# Altium footprint library Eval.Boards.PcbLib: 1 footprints
Each footprint in its own frame and in the unit in brackets; x right, y up, seen from the top. Pads: shape width x height; smd on the part's side, far side on the other; paste and mask are expansions set on the pad; w line width, h text height; cw(c..) or ccw(c..) is an arc to the next point about the centre after c.
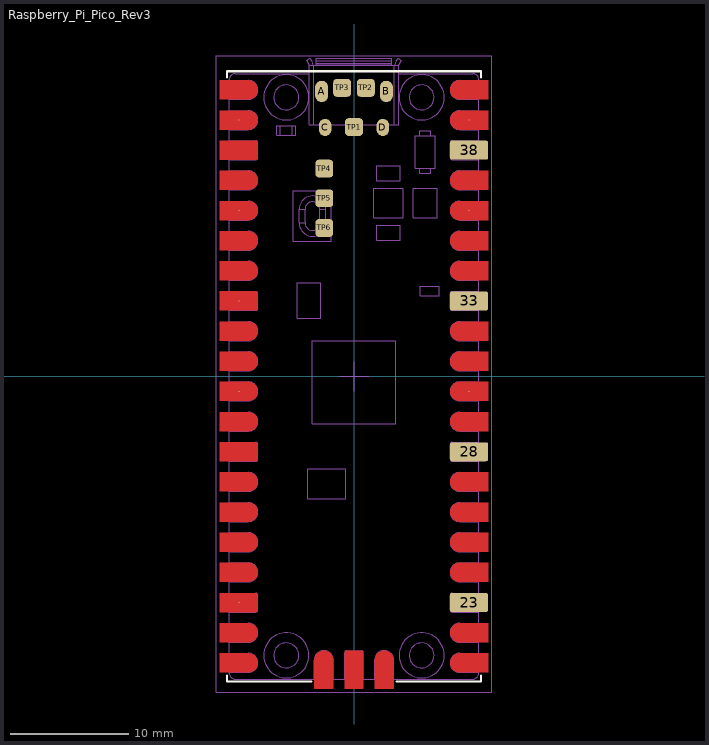
[diagram p0: the footprint, top view; thin cyan lines are the x and y axes]

## Raspberry_Pi_Pico_Rev3 [mm] "SMD Footprint for Raspberry Pi Pico Module"
pads (54):
  round 0.025 smd: 1(-9.69,24.13) 1(-9.69,24.13) 2(-9.69,21.59) 3(-9.69,19.05) 4(-9.69,16.51) 5(-9.69,13.97) 6(-9.69,11.43) 7(-9.69,8.89) 8(-9.69,6.35) 9(-9.69,3.81) 10(-9.69,1.27) 11(-9.69,-1.27) 12(-9.69,-3.81) 13(-9.69,-6.35) 14(-9.69,-8.89) 15(-9.69,-11.43) 16(-9.69,-13.97) 17(-9.69,-16.51) 18(-9.69,-19.05) 19(-9.69,-21.59) 20(-9.69,-24.13) 21(9.69,-24.13) 22(9.69,-21.59) 24(9.69,-16.51) 25(9.69,-13.97) 26(9.69,-11.43) 27(9.69,-8.89) 29(9.69,-3.81) 30(9.69,-1.27) 31(9.69,1.27) 32(9.69,3.81) 34(9.69,8.89) 35(9.69,11.43) 36(9.69,13.97) 37(9.69,16.51) 39(9.69,21.59) 40(9.69,24.13) D1(-2.54,-24.7) D2(0,-24.7) D3(2.54,-24.7)
  rrect20% 3.2x1.6 smd: 23(9.69,-19.05) 28(9.69,-6.35) 33(9.69,6.35) 38(9.69,19.05)
  rrect100% 1.1x1.8 smd: A(-2.725,24) B(2.725,24)
  rrect100% 1.05x1.45 smd: C(-2.425,20.97) D(2.425,20.97)
  rrect40% 1.5x1.5 smd: TP1(0,21) TP2(1,24.3) TP3(-1,24.3) TP4(-2.5,17.5) TP5(-2.5,15) TP6(-2.5,12.5)
Top Layer:
  region: -8.89,23.33 -11.29,23.33 -11.29,24.93 -8.89,24.93 -8.838,24.93 -8.734,24.916 -8.632,24.889 -8.535,24.849 -8.445,24.797 -8.361,24.733 -8.287,24.659 -8.223,24.575 -8.171,24.485 -8.131,24.388 -8.104,24.286 -8.09,24.182 -8.09,24.13 -8.09,24.078 -8.104,23.974 -8.131,23.872 -8.171,23.775 -8.223,23.685 -8.287,23.601 -8.361,23.527 -8.445,23.463 -8.535,23.411 -8.632,23.371 -8.734,23.344 -8.838,23.33
  region: -8.89,23.33 -11.29,23.33 -11.29,24.93 -8.89,24.93 -8.838,24.93 -8.734,24.916 -8.632,24.889 -8.535,24.849 -8.445,24.797 -8.361,24.733 -8.287,24.659 -8.223,24.575 -8.171,24.485 -8.131,24.388 -8.104,24.286 -8.09,24.182 -8.09,24.13 -8.09,24.078 -8.104,23.974 -8.131,23.872 -8.171,23.775 -8.223,23.685 -8.287,23.601 -8.361,23.527 -8.445,23.463 -8.535,23.411 -8.632,23.371 -8.734,23.344 -8.838,23.33
  region: -8.89,20.79 -11.29,20.79 -11.29,22.39 -8.89,22.39 -8.838,22.39 -8.734,22.376 -8.632,22.349 -8.535,22.309 -8.445,22.257 -8.361,22.193 -8.287,22.119 -8.223,22.035 -8.171,21.945 -8.131,21.848 -8.104,21.746 -8.09,21.642 -8.09,21.59 -8.09,21.538 -8.104,21.434 -8.131,21.332 -8.171,21.235 -8.223,21.145 -8.287,21.061 -8.361,20.987 -8.445,20.923 -8.535,20.871 -8.632,20.831 -8.734,20.804 -8.838,20.79
  region: -8.29,18.25 -11.29,18.25 -11.29,19.85 -8.29,19.85 -8.27,19.85 -8.232,19.842 -8.195,19.827 -8.163,19.805 -8.135,19.777 -8.113,19.745 -8.098,19.708 -8.09,19.67 -8.09,19.65 -8.09,18.45 -8.09,18.43 -8.098,18.392 -8.113,18.355 -8.135,18.323 -8.163,18.295 -8.195,18.273 -8.232,18.258 -8.27,18.25
  region: -8.89,15.71 -11.29,15.71 -11.29,17.31 -8.89,17.31 -8.838,17.31 -8.734,17.296 -8.632,17.269 -8.535,17.229 -8.445,17.177 -8.361,17.113 -8.287,17.039 -8.223,16.955 -8.171,16.865 -8.131,16.768 -8.104,16.666 -8.09,16.562 -8.09,16.51 -8.09,16.458 -8.104,16.354 -8.131,16.252 -8.171,16.155 -8.223,16.065 -8.287,15.981 -8.361,15.907 -8.445,15.843 -8.535,15.791 -8.632,15.751 -8.734,15.724 -8.838,15.71
  region: -8.89,13.17 -11.29,13.17 -11.29,14.77 -8.89,14.77 -8.838,14.77 -8.734,14.756 -8.632,14.729 -8.535,14.689 -8.445,14.637 -8.361,14.573 -8.287,14.499 -8.223,14.415 -8.171,14.325 -8.131,14.228 -8.104,14.126 -8.09,14.022 -8.09,13.97 -8.09,13.918 -8.104,13.814 -8.131,13.712 -8.171,13.615 -8.223,13.525 -8.287,13.441 -8.361,13.367 -8.445,13.303 -8.535,13.251 -8.632,13.211 -8.734,13.184 -8.838,13.17
  region: -8.89,10.63 -11.29,10.63 -11.29,12.23 -8.89,12.23 -8.838,12.23 -8.734,12.216 -8.632,12.189 -8.535,12.149 -8.445,12.097 -8.361,12.033 -8.287,11.959 -8.223,11.875 -8.171,11.785 -8.131,11.688 -8.104,11.586 -8.09,11.482 -8.09,11.43 -8.09,11.378 -8.104,11.274 -8.131,11.172 -8.171,11.075 -8.223,10.985 -8.287,10.901 -8.361,10.827 -8.445,10.763 -8.535,10.711 -8.632,10.671 -8.734,10.644 -8.838,10.63
  region: -8.89,8.09 -11.29,8.09 -11.29,9.69 -8.89,9.69 -8.838,9.69 -8.734,9.676 -8.632,9.649 -8.535,9.609 -8.445,9.557 -8.361,9.493 -8.287,9.419 -8.223,9.335 -8.171,9.245 -8.131,9.148 -8.104,9.046 -8.09,8.942 -8.09,8.89 -8.09,8.838 -8.104,8.734 -8.131,8.632 -8.171,8.535 -8.223,8.445 -8.287,8.361 -8.361,8.287 -8.445,8.223 -8.535,8.171 -8.632,8.131 -8.734,8.104 -8.838,8.09
  region: -8.29,5.55 -11.29,5.55 -11.29,7.15 -8.29,7.15 -8.27,7.15 -8.232,7.142 -8.195,7.127 -8.163,7.105 -8.135,7.077 -8.113,7.045 -8.098,7.008 -8.09,6.97 -8.09,6.95 -8.09,5.75 -8.09,5.73 -8.098,5.692 -8.113,5.655 -8.135,5.623 -8.163,5.595 -8.195,5.573 -8.232,5.558 -8.27,5.55
  region: -8.89,3.01 -11.29,3.01 -11.29,4.61 -8.89,4.61 -8.838,4.61 -8.734,4.596 -8.632,4.569 -8.535,4.529 -8.445,4.477 -8.361,4.413 -8.287,4.339 -8.223,4.255 -8.171,4.165 -8.131,4.068 -8.104,3.966 -8.09,3.862 -8.09,3.81 -8.09,3.758 -8.104,3.654 -8.131,3.552 -8.171,3.455 -8.223,3.365 -8.287,3.281 -8.361,3.207 -8.445,3.143 -8.535,3.091 -8.632,3.051 -8.734,3.024 -8.838,3.01
  region: -8.89,0.47 -11.29,0.47 -11.29,2.07 -8.89,2.07 -8.838,2.07 -8.734,2.056 -8.632,2.029 -8.535,1.989 -8.445,1.937 -8.361,1.873 -8.287,1.799 -8.223,1.715 -8.171,1.625 -8.131,1.528 -8.104,1.426 -8.09,1.322 -8.09,1.27 -8.09,1.218 -8.104,1.114 -8.131,1.012 -8.171,0.915 -8.223,0.825 -8.287,0.741 -8.361,0.667 -8.445,0.603 -8.535,0.551 -8.632,0.511 -8.734,0.484 -8.838,0.47
  region: -8.89,-2.07 -11.29,-2.07 -11.29,-0.47 -8.89,-0.47 -8.838,-0.47 -8.734,-0.484 -8.632,-0.511 -8.535,-0.551 -8.445,-0.603 -8.361,-0.667 -8.287,-0.741 -8.223,-0.825 -8.171,-0.915 -8.131,-1.012 -8.104,-1.114 -8.09,-1.218 -8.09,-1.27 -8.09,-1.322 -8.104,-1.426 -8.131,-1.528 -8.171,-1.625 -8.223,-1.715 -8.287,-1.799 -8.361,-1.873 -8.445,-1.937 -8.535,-1.989 -8.632,-2.029 -8.734,-2.056 -8.838,-2.07
  region: -8.89,-4.61 -11.29,-4.61 -11.29,-3.01 -8.89,-3.01 -8.838,-3.01 -8.734,-3.024 -8.632,-3.051 -8.535,-3.091 -8.445,-3.143 -8.361,-3.207 -8.287,-3.281 -8.223,-3.365 -8.171,-3.455 -8.131,-3.552 -8.104,-3.654 -8.09,-3.758 -8.09,-3.81 -8.09,-3.862 -8.104,-3.966 -8.131,-4.068 -8.171,-4.165 -8.223,-4.255 -8.287,-4.339 -8.361,-4.413 -8.445,-4.477 -8.535,-4.529 -8.632,-4.569 -8.734,-4.596 -8.838,-4.61
  region: -8.29,-7.15 -11.29,-7.15 -11.29,-5.55 -8.29,-5.55 -8.27,-5.55 -8.232,-5.558 -8.195,-5.573 -8.163,-5.595 -8.135,-5.623 -8.113,-5.655 -8.098,-5.692 -8.09,-5.73 -8.09,-5.75 -8.09,-6.95 -8.09,-6.97 -8.098,-7.008 -8.113,-7.045 -8.135,-7.077 -8.163,-7.105 -8.195,-7.127 -8.232,-7.142 -8.27,-7.15
  region: -8.89,-9.69 -11.29,-9.69 -11.29,-8.09 -8.89,-8.09 -8.838,-8.09 -8.734,-8.104 -8.632,-8.131 -8.535,-8.171 -8.445,-8.223 -8.361,-8.287 -8.287,-8.361 -8.223,-8.445 -8.171,-8.535 -8.131,-8.632 -8.104,-8.734 -8.09,-8.838 -8.09,-8.89 -8.09,-8.942 -8.104,-9.046 -8.131,-9.148 -8.171,-9.245 -8.223,-9.335 -8.287,-9.419 -8.361,-9.493 -8.445,-9.557 -8.535,-9.609 -8.632,-9.649 -8.734,-9.676 -8.838,-9.69
  region: -8.89,-12.23 -11.29,-12.23 -11.29,-10.63 -8.89,-10.63 -8.838,-10.63 -8.734,-10.644 -8.632,-10.671 -8.535,-10.711 -8.445,-10.763 -8.361,-10.827 -8.287,-10.901 -8.223,-10.985 -8.171,-11.075 -8.131,-11.172 -8.104,-11.274 -8.09,-11.378 -8.09,-11.43 -8.09,-11.482 -8.104,-11.586 -8.131,-11.688 -8.171,-11.785 -8.223,-11.875 -8.287,-11.959 -8.361,-12.033 -8.445,-12.097 -8.535,-12.149 -8.632,-12.189 -8.734,-12.216 -8.838,-12.23
  region: -8.89,-14.77 -11.29,-14.77 -11.29,-13.17 -8.89,-13.17 -8.838,-13.17 -8.734,-13.184 -8.632,-13.211 -8.535,-13.251 -8.445,-13.303 -8.361,-13.367 -8.287,-13.441 -8.223,-13.525 -8.171,-13.615 -8.131,-13.712 -8.104,-13.814 -8.09,-13.918 -8.09,-13.97 -8.09,-14.022 -8.104,-14.126 -8.131,-14.228 -8.171,-14.325 -8.223,-14.415 -8.287,-14.499 -8.361,-14.573 -8.445,-14.637 -8.535,-14.689 -8.632,-14.729 -8.734,-14.756 -8.838,-14.77
  region: -8.89,-17.31 -11.29,-17.31 -11.29,-15.71 -8.89,-15.71 -8.838,-15.71 -8.734,-15.724 -8.632,-15.751 -8.535,-15.791 -8.445,-15.843 -8.361,-15.907 -8.287,-15.981 -8.223,-16.065 -8.171,-16.155 -8.131,-16.252 -8.104,-16.354 -8.09,-16.458 -8.09,-16.51 -8.09,-16.562 -8.104,-16.666 -8.131,-16.768 -8.171,-16.865 -8.223,-16.955 -8.287,-17.039 -8.361,-17.113 -8.445,-17.177 -8.535,-17.229 -8.632,-17.269 -8.734,-17.296 -8.838,-17.31
  region: -8.29,-19.85 -11.29,-19.85 -11.29,-18.25 -8.29,-18.25 -8.27,-18.25 -8.232,-18.258 -8.195,-18.273 -8.163,-18.295 -8.135,-18.323 -8.113,-18.355 -8.098,-18.392 -8.09,-18.43 -8.09,-18.45 -8.09,-19.65 -8.09,-19.67 -8.098,-19.708 -8.113,-19.745 -8.135,-19.777 -8.163,-19.805 -8.195,-19.827 -8.232,-19.842 -8.27,-19.85
  region: -8.89,-22.39 -11.29,-22.39 -11.29,-20.79 -8.89,-20.79 -8.838,-20.79 -8.734,-20.804 -8.632,-20.831 -8.535,-20.871 -8.445,-20.923 -8.361,-20.987 -8.287,-21.061 -8.223,-21.145 -8.171,-21.235 -8.131,-21.332 -8.104,-21.434 -8.09,-21.538 -8.09,-21.59 -8.09,-21.642 -8.104,-21.746 -8.131,-21.848 -8.171,-21.945 -8.223,-22.035 -8.287,-22.119 -8.361,-22.193 -8.445,-22.257 -8.535,-22.309 -8.632,-22.349 -8.734,-22.376 -8.838,-22.39
  region: -8.89,-24.93 -11.29,-24.93 -11.29,-23.33 -8.89,-23.33 -8.838,-23.33 -8.734,-23.344 -8.632,-23.371 -8.535,-23.411 -8.445,-23.463 -8.361,-23.527 -8.287,-23.601 -8.223,-23.685 -8.171,-23.775 -8.131,-23.872 -8.104,-23.974 -8.09,-24.078 -8.09,-24.13 -8.09,-24.182 -8.104,-24.286 -8.131,-24.388 -8.171,-24.485 -8.223,-24.575 -8.287,-24.659 -8.361,-24.733 -8.445,-24.797 -8.535,-24.849 -8.632,-24.889 -8.734,-24.916 -8.838,-24.93
  region: 8.89,-24.93 8.838,-24.93 8.734,-24.916 8.632,-24.889 8.535,-24.849 8.445,-24.797 8.361,-24.733 8.287,-24.659 8.223,-24.575 8.171,-24.485 8.131,-24.388 8.104,-24.286 8.09,-24.182 8.09,-24.13 8.09,-24.078 8.104,-23.974 8.131,-23.872 8.171,-23.775 8.223,-23.685 8.287,-23.601 8.361,-23.527 8.445,-23.463 8.535,-23.411 8.632,-23.371 8.734,-23.344 8.838,-23.33 8.89,-23.33 11.29,-23.33 11.29,-24.93
  region: 8.89,-22.39 8.838,-22.39 8.734,-22.376 8.632,-22.349 8.535,-22.309 8.445,-22.257 8.361,-22.193 8.287,-22.119 8.223,-22.035 8.171,-21.945 8.131,-21.848 8.104,-21.746 8.09,-21.642 8.09,-21.59 8.09,-21.538 8.104,-21.434 8.131,-21.332 8.171,-21.235 8.223,-21.145 8.287,-21.061 8.361,-20.987 8.445,-20.923 8.535,-20.871 8.632,-20.831 8.734,-20.804 8.838,-20.79 8.89,-20.79 11.29,-20.79 11.29,-22.39
  region: 8.89,-17.31 8.838,-17.31 8.734,-17.296 8.632,-17.269 8.535,-17.229 8.445,-17.177 8.361,-17.113 8.287,-17.039 8.223,-16.955 8.171,-16.865 8.131,-16.768 8.104,-16.666 8.09,-16.562 8.09,-16.51 8.09,-16.458 8.104,-16.354 8.131,-16.252 8.171,-16.155 8.223,-16.065 8.287,-15.981 8.361,-15.907 8.445,-15.843 8.535,-15.791 8.632,-15.751 8.734,-15.724 8.838,-15.71 8.89,-15.71 11.29,-15.71 11.29,-17.31
  region: 8.89,-14.77 8.838,-14.77 8.734,-14.756 8.632,-14.729 8.535,-14.689 8.445,-14.637 8.361,-14.573 8.287,-14.499 8.223,-14.415 8.171,-14.325 8.131,-14.228 8.104,-14.126 8.09,-14.022 8.09,-13.97 8.09,-13.918 8.104,-13.814 8.131,-13.712 8.171,-13.615 8.223,-13.525 8.287,-13.441 8.361,-13.367 8.445,-13.303 8.535,-13.251 8.632,-13.211 8.734,-13.184 8.838,-13.17 8.89,-13.17 11.29,-13.17 11.29,-14.77
  region: 8.89,-12.23 8.838,-12.23 8.734,-12.216 8.632,-12.189 8.535,-12.149 8.445,-12.097 8.361,-12.033 8.287,-11.959 8.223,-11.875 8.171,-11.785 8.131,-11.688 8.104,-11.586 8.09,-11.482 8.09,-11.43 8.09,-11.378 8.104,-11.274 8.131,-11.172 8.171,-11.075 8.223,-10.985 8.287,-10.901 8.361,-10.827 8.445,-10.763 8.535,-10.711 8.632,-10.671 8.734,-10.644 8.838,-10.63 8.89,-10.63 11.29,-10.63 11.29,-12.23
  region: 8.89,-9.69 8.838,-9.69 8.734,-9.676 8.632,-9.649 8.535,-9.609 8.445,-9.557 8.361,-9.493 8.287,-9.419 8.223,-9.335 8.171,-9.245 8.131,-9.148 8.104,-9.046 8.09,-8.942 8.09,-8.89 8.09,-8.838 8.104,-8.734 8.131,-8.632 8.171,-8.535 8.223,-8.445 8.287,-8.361 8.361,-8.287 8.445,-8.223 8.535,-8.171 8.632,-8.131 8.734,-8.104 8.838,-8.09 8.89,-8.09 11.29,-8.09 11.29,-9.69
  region: 8.89,-4.61 8.838,-4.61 8.734,-4.596 8.632,-4.569 8.535,-4.529 8.445,-4.477 8.361,-4.413 8.287,-4.339 8.223,-4.255 8.171,-4.165 8.131,-4.068 8.104,-3.966 8.09,-3.862 8.09,-3.81 8.09,-3.758 8.104,-3.654 8.131,-3.552 8.171,-3.455 8.223,-3.365 8.287,-3.281 8.361,-3.207 8.445,-3.143 8.535,-3.091 8.632,-3.051 8.734,-3.024 8.838,-3.01 8.89,-3.01 11.29,-3.01 11.29,-4.61
  region: 8.89,-2.07 8.838,-2.07 8.734,-2.056 8.632,-2.029 8.535,-1.989 8.445,-1.937 8.361,-1.873 8.287,-1.799 8.223,-1.715 8.171,-1.625 8.131,-1.528 8.104,-1.426 8.09,-1.322 8.09,-1.27 8.09,-1.218 8.104,-1.114 8.131,-1.012 8.171,-0.915 8.223,-0.825 8.287,-0.741 8.361,-0.667 8.445,-0.603 8.535,-0.551 8.632,-0.511 8.734,-0.484 8.838,-0.47 8.89,-0.47 11.29,-0.47 11.29,-2.07
  region: 8.89,0.47 8.838,0.47 8.734,0.484 8.632,0.511 8.535,0.551 8.445,0.603 8.361,0.667 8.287,0.741 8.223,0.825 8.171,0.915 8.131,1.012 8.104,1.114 8.09,1.218 8.09,1.27 8.09,1.322 8.104,1.426 8.131,1.528 8.171,1.625 8.223,1.715 8.287,1.799 8.361,1.873 8.445,1.937 8.535,1.989 8.632,2.029 8.734,2.056 8.838,2.07 8.89,2.07 11.29,2.07 11.29,0.47
  region: 8.89,3.01 8.838,3.01 8.734,3.024 8.632,3.051 8.535,3.091 8.445,3.143 8.361,3.207 8.287,3.281 8.223,3.365 8.171,3.455 8.131,3.552 8.104,3.654 8.09,3.758 8.09,3.81 8.09,3.862 8.104,3.966 8.131,4.068 8.171,4.165 8.223,4.255 8.287,4.339 8.361,4.413 8.445,4.477 8.535,4.529 8.632,4.569 8.734,4.596 8.838,4.61 8.89,4.61 11.29,4.61 11.29,3.01
  region: 8.89,8.09 8.838,8.09 8.734,8.104 8.632,8.131 8.535,8.171 8.445,8.223 8.361,8.287 8.287,8.361 8.223,8.445 8.171,8.535 8.131,8.632 8.104,8.734 8.09,8.838 8.09,8.89 8.09,8.942 8.104,9.046 8.131,9.148 8.171,9.245 8.223,9.335 8.287,9.419 8.361,9.493 8.445,9.557 8.535,9.609 8.632,9.649 8.734,9.676 8.838,9.69 8.89,9.69 11.29,9.69 11.29,8.09
  region: 8.89,10.63 8.838,10.63 8.734,10.644 8.632,10.671 8.535,10.711 8.445,10.763 8.361,10.827 8.287,10.901 8.223,10.985 8.171,11.075 8.131,11.172 8.104,11.274 8.09,11.378 8.09,11.43 8.09,11.482 8.104,11.586 8.131,11.688 8.171,11.785 8.223,11.875 8.287,11.959 8.361,12.033 8.445,12.097 8.535,12.149 8.632,12.189 8.734,12.216 8.838,12.23 8.89,12.23 11.29,12.23 11.29,10.63
  region: 8.89,13.17 8.838,13.17 8.734,13.184 8.632,13.211 8.535,13.251 8.445,13.303 8.361,13.367 8.287,13.441 8.223,13.525 8.171,13.615 8.131,13.712 8.104,13.814 8.09,13.918 8.09,13.97 8.09,14.022 8.104,14.126 8.131,14.228 8.171,14.325 8.223,14.415 8.287,14.499 8.361,14.573 8.445,14.637 8.535,14.689 8.632,14.729 8.734,14.756 8.838,14.77 8.89,14.77 11.29,14.77 11.29,13.17
  region: 8.89,15.71 8.838,15.71 8.734,15.724 8.632,15.751 8.535,15.791 8.445,15.843 8.361,15.907 8.287,15.981 8.223,16.065 8.171,16.155 8.131,16.252 8.104,16.354 8.09,16.458 8.09,16.51 8.09,16.562 8.104,16.666 8.131,16.768 8.171,16.865 8.223,16.955 8.287,17.039 8.361,17.113 8.445,17.177 8.535,17.229 8.632,17.269 8.734,17.296 8.838,17.31 8.89,17.31 11.29,17.31 11.29,15.71
  region: 8.89,20.79 8.838,20.79 8.734,20.804 8.632,20.831 8.535,20.871 8.445,20.923 8.361,20.987 8.287,21.061 8.223,21.145 8.171,21.235 8.131,21.332 8.104,21.434 8.09,21.538 8.09,21.59 8.09,21.642 8.104,21.746 8.131,21.848 8.171,21.945 8.223,22.035 8.287,22.119 8.361,22.193 8.445,22.257 8.535,22.309 8.632,22.349 8.734,22.376 8.838,22.39 8.89,22.39 11.29,22.39 11.29,20.79
  region: 8.89,23.33 8.838,23.33 8.734,23.344 8.632,23.371 8.535,23.411 8.445,23.463 8.361,23.527 8.287,23.601 8.223,23.685 8.171,23.775 8.131,23.872 8.104,23.974 8.09,24.078 8.09,24.13 8.09,24.182 8.104,24.286 8.131,24.388 8.171,24.485 8.223,24.575 8.287,24.659 8.361,24.733 8.445,24.797 8.535,24.849 8.632,24.889 8.734,24.916 8.838,24.93 8.89,24.93 11.29,24.93 11.29,23.33
  region: -1.74,-23.9 -1.74,-26.3 -3.34,-26.3 -3.34,-23.9 -3.34,-23.848 -3.326,-23.744 -3.299,-23.642 -3.259,-23.545 -3.207,-23.455 -3.143,-23.371 -3.069,-23.297 -2.985,-23.233 -2.895,-23.181 -2.798,-23.141 -2.696,-23.114 -2.592,-23.1 -2.54,-23.1 -2.488,-23.1 -2.384,-23.114 -2.282,-23.141 -2.185,-23.181 -2.095,-23.233 -2.011,-23.297 -1.937,-23.371 -1.873,-23.455 -1.821,-23.545 -1.781,-23.642 -1.754,-23.744 -1.74,-23.848
  region: 1.74,-23.9 1.74,-26.3 3.34,-26.3 3.34,-23.9 3.34,-23.848 3.326,-23.744 3.299,-23.642 3.259,-23.545 3.207,-23.455 3.143,-23.371 3.069,-23.297 2.985,-23.233 2.895,-23.181 2.798,-23.141 2.696,-23.114 2.592,-23.1 2.54,-23.1 2.488,-23.1 2.384,-23.114 2.282,-23.141 2.185,-23.181 2.095,-23.233 2.011,-23.297 1.937,-23.371 1.873,-23.455 1.821,-23.545 1.781,-23.642 1.754,-23.744 1.74,-23.848
  region: 0.8,-23.3 0.8,-26.3 -0.8,-26.3 -0.8,-23.3 -0.8,-23.28 -0.792,-23.242 -0.777,-23.205 -0.755,-23.173 -0.727,-23.145 -0.695,-23.123 -0.658,-23.108 -0.62,-23.1 -0.6,-23.1 0.6,-23.1 0.62,-23.1 0.658,-23.108 0.695,-23.123 0.727,-23.145 0.755,-23.173 0.777,-23.205 0.792,-23.242 0.8,-23.28
Top Overlay:
  lines w0.2: -10.7,-25.2 -10.7,-25.7 -3.6,-25.7 ; -10.7,25.2 -10.7,25.7 10.7,25.7 10.7,25.2 ; 3.6,-25.7 10.7,-25.7 10.7,-25.2
Mechanical 1:
  drawing of 445 lines, arcs and shapes, not listed
Mechanical 15:
  lines w0.05: -11.6,-26.6 11.6,-26.6 11.6,27 -11.6,27 -11.6,-26.6
  lines w0.1: -1.25,0 1.25,0 ; 0,-1.25 0,1.25
3D body "Raspberry Pi Pico.STEP": height 3.73, standoff 0, extent -10.5,-25.5 10.5,26.8